# EAGLE library part LTV-826S (library Isolators)
OPTOISOLATOR 5KV 2CH TRANS 8-SMD
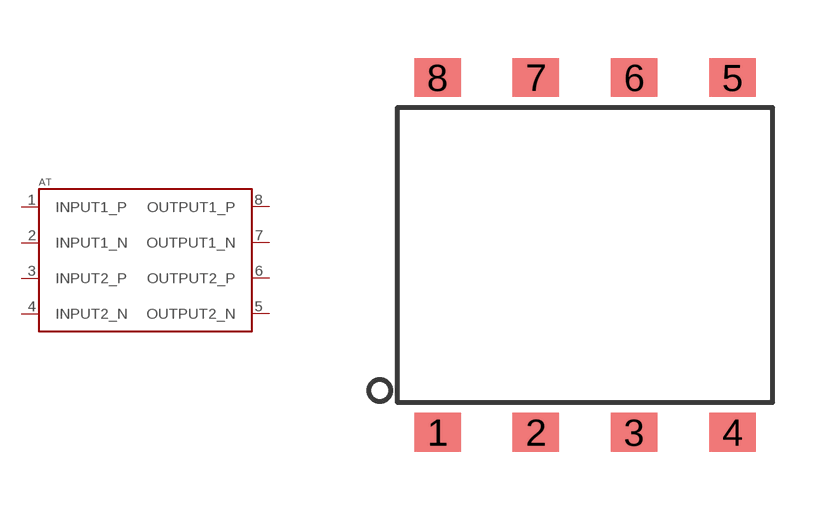
[diagram p0: symbol with the pads of LTV-826S; footprint LTV-826S]

Designator prefix AT

## LTV-826S (MN: Lite-On Inc.; MN_CODE: LTV-826S; ORDER: DIGIKEY; ORDER_CODE: 160-1363-5-ND)  [LTV-826S]
1  INPUT1_P
2  INPUT1_N
3  INPUT2_P
4  INPUT2_N
5  OUTPUT2_N
6  OUTPUT2_P
7  OUTPUT1_N
8  OUTPUT1_P

## Footprint LTV-826S (pad centres in mm)
smd 1.2 x 1: 1 -3.81,-4.58; 2 -1.27,-4.58; 3 1.27,-4.58; 4 3.81,-4.58; 5 3.81,4.58; 6 1.27,4.58; 7 -1.27,4.58; 8 -3.81,4.58